# EAGLE library part MS5611_BREAKOUT (library ms5611_breakout)
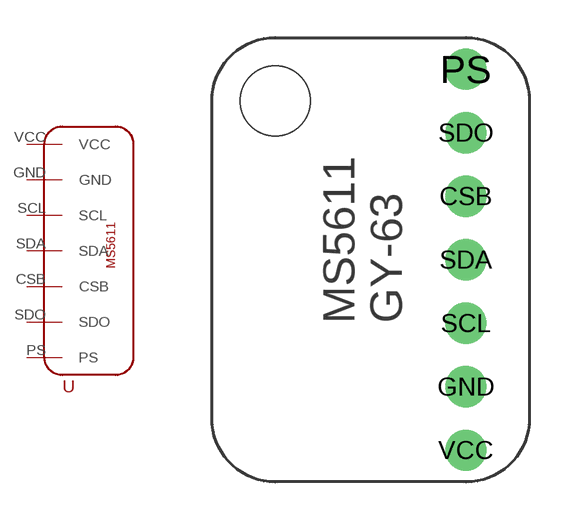
[diagram p0: symbol with the pads of MS5611_BREAKOUT; footprint MS5611_BREAKOUT]

Designator prefix -

## MS5611_BREAKOUT  [MS5611_BREAKOUT]
CSB  CSB
GND  GND
PS  PS
SCL  SCL
SDA  SDA
SDO  SDO
VCC  VCC  in

## Footprint MS5611_BREAKOUT (pad centres in mm)
drill 1.1: CSB 3.81,2.54; GND 3.81,-5.08; PS 3.81,7.62; SCL 3.81,-2.54; SDA 3.81,0; SDO 3.81,5.08; VCC 3.81,-7.62
hole 2.8 at -3.81,6.35